# Altium footprint library SOP.PcbLib: 214 footprints (part 5 of 14)
Each footprint in its own frame and in the unit in brackets; x right, y up, seen from the top. Pads: shape width x height; smd on the part's side, far side on the other; paste and mask are expansions set on the pad; w line width, h text height; cw(c..) or ccw(c..) is an arc to the next point about the centre after c.
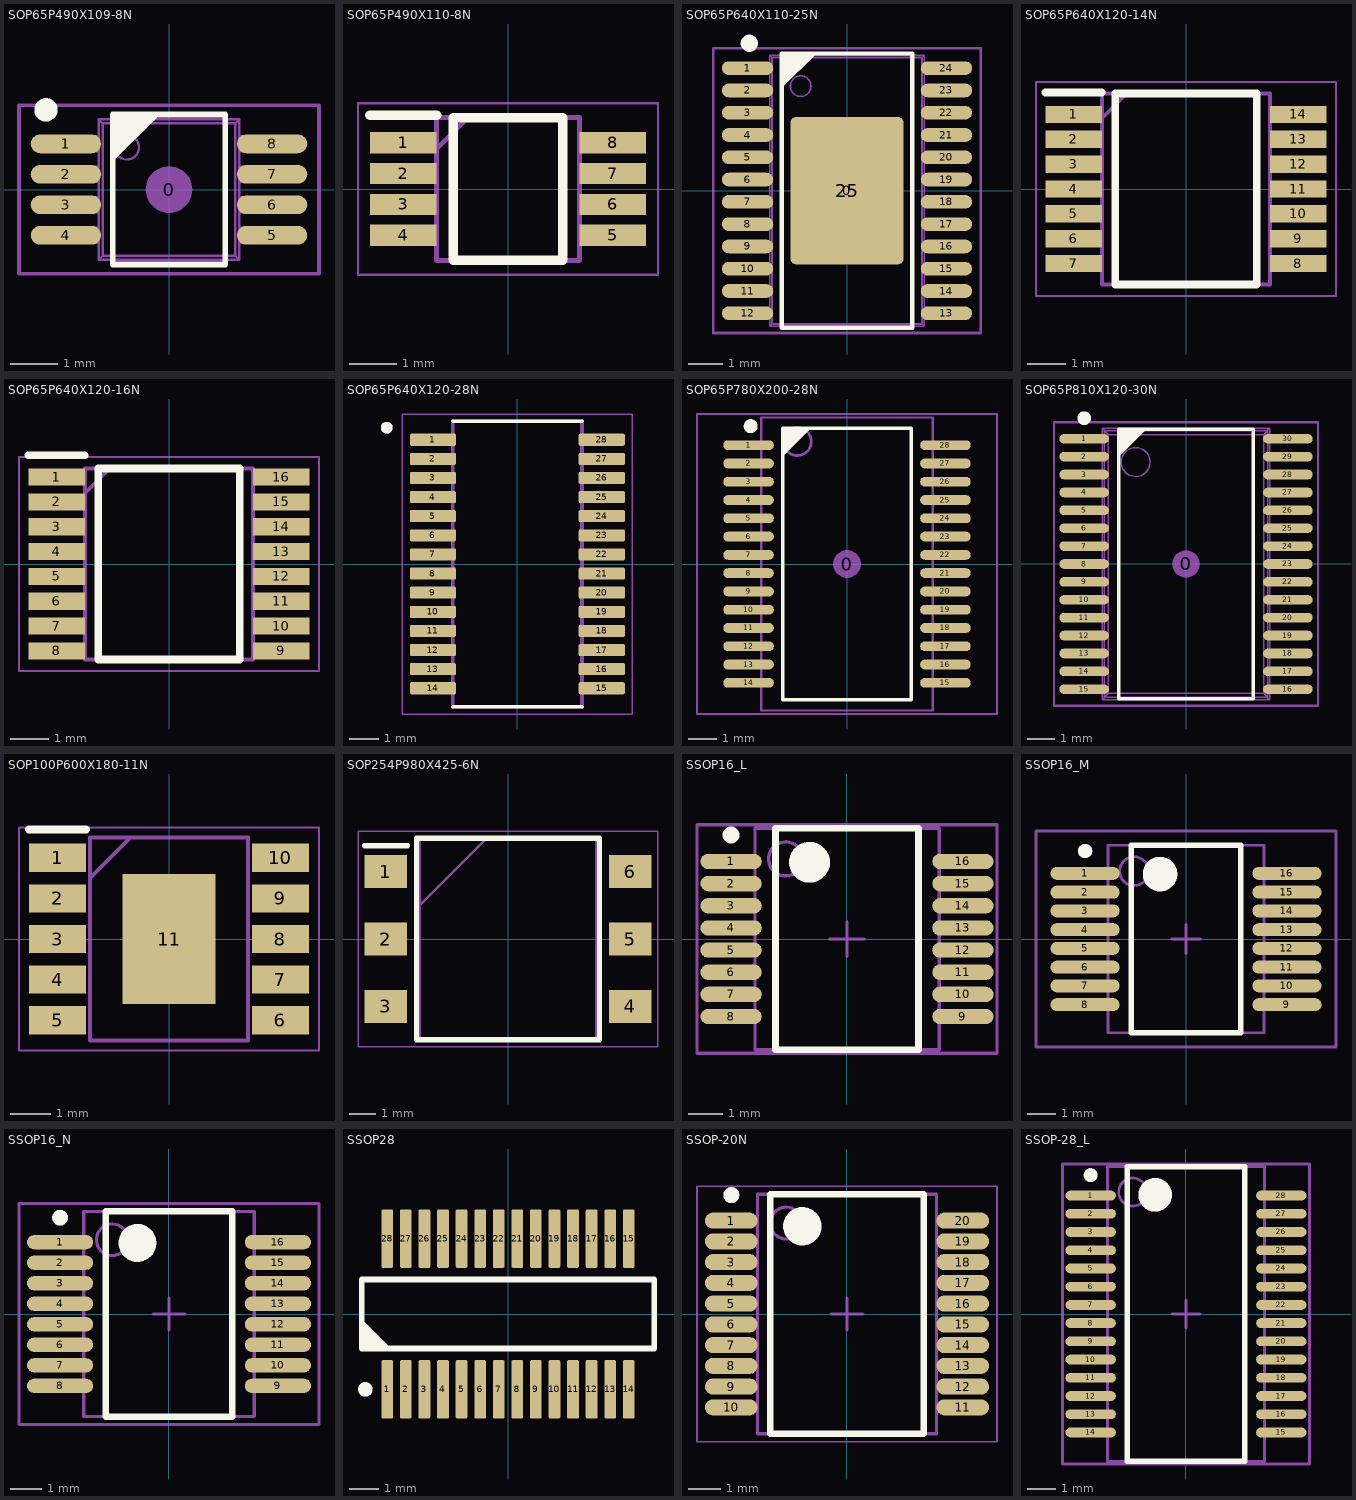
[diagram p4: the footprints below, top view; thin cyan lines are the x and y axes]

## SOP65P490X109-8N [mm] "SOP, 0.65mm pitch, 8 pin, Body 3.0x3.0x1.09mm LWH, IPC Medium Density"
height 1.09
pads (9):
  round 1 on Mech15: 0(0,0)
  oval 1.5x0.4 smd: 1(-2.2,0.975) 2(-2.2,0.325) 3(-2.2,-0.325) 4(-2.2,-0.975) 5(2.2,-0.975) 6(2.2,-0.325) 7(2.2,0.325) 8(2.2,0.975)
Top Overlay:
  circle w0.25: c-2.625,1.7 r0.125
  region: -1.2,1.6 -0.2,1.6 -1.2,0.6
  lines w0.127: -1.2,-1.6 -1.2,1.6 1.2,1.6 1.2,-1.6 -1.2,-1.6
Mechanical 13:
  circle w0.05: c-0.9,0.9 r0.26
  lines w0.05: -2.162,-1.135 -2.162,-0.815 ; -2.162,-0.485 -2.162,-0.165 ; -2.162,0.165 -2.162,0.485 ; -2.162,0.815 -2.162,1.135 ; -2.074,-1.135 -2.074,-0.815 ; -2.074,-0.485 -2.074,-0.165 ; -2.074,0.165 -2.074,0.485 ; -2.074,0.815 -2.074,1.135 ; -2.019,-1.135 -2.019,-0.815 ; -2.019,-0.485 -2.019,-0.165 ; -2.019,0.165 -2.019,0.485 ; -2.019,0.815 -2.019,1.135 ; -1.749,-1.135 -1.749,-0.815 ; -1.749,-0.485 -1.749,-0.165 ; -1.749,0.165 -1.749,0.485 ; -1.749,0.815 -1.749,1.135 ; -1.5,-1.135 -2.45,-1.135 -2.45,-0.815 -1.5,-0.815 ; -1.5,-0.485 -2.45,-0.485 -2.45,-0.165 -1.5,-0.165 ; -1.5,0.165 -2.45,0.165 -2.45,0.485 -1.5,0.485 ; -1.5,0.815 -2.45,0.815 -2.45,1.135 -1.5,1.135 ; 1.5,-1.135 2.45,-1.135 2.45,-0.815 1.5,-0.815 ; 1.5,-0.485 2.45,-0.485 2.45,-0.165 1.5,-0.165 ; 1.5,0.165 2.45,0.165 2.45,0.485 1.5,0.485 ; 1.5,0.815 2.45,0.815 2.45,1.135 1.5,1.135 ; 1.749,-1.135 1.749,-0.815 ; 1.749,-0.485 1.749,-0.165 ; 1.749,0.165 1.749,0.485 ; 1.749,0.815 1.749,1.135 ; 2.019,-1.135 2.019,-0.815 ; 2.019,-0.485 2.019,-0.165 ; 2.019,0.165 2.019,0.485 ; 2.019,0.815 2.019,1.135 ; 2.074,-1.135 2.074,-0.815 ; 2.074,-0.485 2.074,-0.165 ; 2.074,0.165 2.074,0.485 ; 2.074,0.815 2.074,1.135 ; 2.162,-1.135 2.162,-0.815 ; 2.162,-0.485 2.162,-0.165 ; 2.162,0.165 2.162,0.485 ; 2.162,0.815 2.162,1.135 ; -1.5,-1.5 1.5,-1.5 ; -1.5,-1.5 -1.5,1.5 ; -1.5,-1.5 -1.413,-1.413 ; -1.5,1.5 -1.413,1.413 ; -1.5,1.5 1.5,1.5 ; -1.413,-1.413 1.413,-1.413 ; -1.413,-1.413 -1.413,1.413 ; -1.413,1.413 1.413,1.413 ; 1.413,-1.413 1.5,-1.5 ; 1.413,-1.413 1.413,1.413 ; 1.413,1.413 1.5,1.5 ; 1.5,-1.5 1.5,1.5
Mechanical 15:
  lines w0.076: -3.2,-1.8 -3.2,1.8 3.2,1.8 3.2,-1.8 -3.2,-1.8
3D body "MSOP-8.STEP": height 1.1, standoff 0, extent -2.45,-1.5 2.45,1.5

## SOP65P490X110-8N [mm]
pads (8):
  rect 1.4x0.45 smd: 1(-2.2,0.975) 2(-2.2,0.325) 3(-2.2,-0.325) 4(-2.2,-0.975) 5(2.2,-0.975) 6(2.2,-0.325) 7(2.2,0.325) 8(2.2,0.975)
Top Overlay:
  lines w0.2: -2.9,1.55 -1.5,1.55 ; -1.15,-1.5 -1.15,1.5 1.15,1.5 1.15,-1.5 -1.15,-1.5
Mechanical 13:
  lines w0.1: -1.5,0.85 -0.85,1.5 ; -1.5,-1.5 -1.5,1.5 1.5,1.5 1.5,-1.5 -1.5,-1.5
Mechanical 15:
  lines w0.05: -3.15,-1.8 -3.15,1.8 3.15,1.8 3.15,-1.8 -3.15,-1.8
3D body "INA2290A3IDGKT.stp": height 1.1, standoff 0, extent -2.451,-1.499 2.451,1.499

## SOP65P640X110-25N [mm] "TSSOP, 24-Leads, Body 7.9x4.5mm (max), Pitch 0.65mm, IPC Medium Density; JEDEC MO-153"
height 1.1
pads (26):
  round 0.508 on Mech15 mask+0.127: 0(0,0)
  oval 1.5x0.4 smd mask+0.127: 1(-2.9,3.575) 2(-2.9,2.925) 3(-2.9,2.275) 4(-2.9,1.625) 5(-2.9,0.975) 6(-2.9,0.325) 7(-2.9,-0.325) 8(-2.9,-0.975) 9(-2.9,-1.625) 10(-2.9,-2.275) 11(-2.9,-2.925) 12(-2.9,-3.575) 13(2.9,-3.575) 14(2.9,-2.925) 15(2.9,-2.275) 16(2.9,-1.625) 17(2.9,-0.975) 18(2.9,-0.325) 19(2.9,0.325) 20(2.9,0.975) 21(2.9,1.625) 22(2.9,2.275) 23(2.9,2.925) 24(2.9,3.575)
  rrect10% 3.3x4.3 smd paste-0.7: 25(0,0)
Top Overlay:
  circle w0.25: c-2.85,4.3 r0.125
  region: -1.9,4 -0.9,4 -1.9,3
  lines w0.127: -1.9,-4 -1.9,4 1.9,4 1.9,-4 -1.9,-4
Mechanical 13:
  drawing of 181 lines, arcs and shapes, not listed
Mechanical 15:
  lines w0.076: -3.9,-4.15 -3.9,4.15 3.9,4.15 3.9,-4.15 -3.9,-4.15
3D body "SOP65P640X110-24N.STEP": height 1.2, standoff 0, extent -3.25,-3.95 3.25,3.95

## SOP65P640X120-14N [mm]
pads (14):
  rect 1.475x0.45 smd: 1(-2.938,1.95) 2(-2.938,1.3) 3(-2.938,0.65) 4(-2.938,0) 5(-2.938,-0.65) 6(-2.938,-1.3) 7(-2.938,-1.95) 8(2.938,-1.95) 9(2.938,-1.3) 10(2.938,-0.65) 11(2.938,0) 12(2.938,0.65) 13(2.938,1.3) 14(2.938,1.95)
Top Overlay:
  lines w0.2: -3.675,2.525 -2.2,2.525 ; -1.85,-2.5 1.85,-2.5 1.85,2.5 -1.85,2.5 -1.85,-2.5
Mechanical 13:
  lines w0.1: -2.2,1.85 -1.55,2.5 ; -2.2,-2.5 2.2,-2.5 2.2,2.5 -2.2,2.5 -2.2,-2.5
Mechanical 15:
  lines w0.05: -3.925,-2.8 3.925,-2.8 3.925,2.8 -3.925,2.8 -3.925,-2.8
3D body "LSF0204PWR.stp": height 1.13, standoff 0, extent -3.2,-2.5 3.2,2.5

## SOP65P640X120-16N [mm]
pads (16):
  rect 1.475x0.45 smd: 1(-2.938,2.275) 2(-2.938,1.625) 3(-2.938,0.975) 4(-2.938,0.325) 5(-2.938,-0.325) 6(-2.938,-0.975) 7(-2.938,-1.625) 8(-2.938,-2.275) 9(2.938,-2.275) 10(2.938,-1.625) 11(2.938,-0.975) 12(2.938,-0.325) 13(2.938,0.325) 14(2.938,0.975) 15(2.938,1.625) 16(2.938,2.275)
Top Overlay:
  lines w0.2: -3.675,2.85 -2.2,2.85 ; -1.85,-2.5 -1.85,2.5 1.85,2.5 1.85,-2.5 -1.85,-2.5
Mechanical 15:
  lines w0.1: -2.2,1.85 -1.55,2.5 ; -2.2,-2.5 -2.2,2.5 2.2,2.5 2.2,-2.5 -2.2,-2.5
Mechanical 20:
  lines w0.05: -3.925,-2.8 -3.925,2.8 3.925,2.8 3.925,-2.8 -3.925,-2.8
3D body "ADS1220IPWR.stp": height 1.13, standoff 0, extent -3.2,-2.5 3.2,2.5

## SOP65P640X120-28N [mm]
pads (28):
  rrect25% 1.57x0.41 smd: 1(-2.87,4.225) 2(-2.87,3.575) 3(-2.87,2.925) 4(-2.87,2.275) 5(-2.87,1.625) 6(-2.87,0.975) 7(-2.87,0.325) 8(-2.87,-0.325) 9(-2.87,-0.975) 10(-2.87,-1.625) 11(-2.87,-2.275) 12(-2.87,-2.925) 13(-2.87,-3.575) 14(-2.87,-4.225) 15(2.87,-4.225) 16(2.87,-3.575) 17(2.87,-2.925) 18(2.87,-2.275) 19(2.87,-1.625) 20(2.87,-0.975) 21(2.87,-0.325) 22(2.87,0.325) 23(2.87,0.975) 24(2.87,1.625) 25(2.87,2.275) 26(2.87,2.925) 27(2.87,3.575) 28(2.87,4.225)
Top Overlay:
  circle w0.2: c-4.44,4.635 r0.1
  lines w0.127: -2.2,-4.85 2.2,-4.85 ; -2.2,4.85 2.2,4.85
Mechanical 13:
  circle w0.2: c-4.44,4.635 r0.1
  lines w0.127: -2.2,-4.85 -2.2,4.85 2.2,4.85 2.2,-4.85 -2.2,-4.85
Mechanical 15:
  lines w0.05: -3.905,-5.1 -3.905,5.1 3.905,5.1 3.905,-5.1 -3.905,-5.1
3D body "step_temp.STEP": height 1.2, standoff 0, extent -3.2,-4.85 3.2,4.85

## SOP65P780X200-28N [mm] "SOP, 28 Leads, Body 10.2x5.3mm, Pitch 0.65mm, IPC Medium Density"
height 2
pads (29):
  round 1 on Mech15: 0(0,0)
  oval 1.8x0.35 smd: 1(-3.5,4.225) 2(-3.5,3.575) 3(-3.5,2.925) 4(-3.5,2.275) 5(-3.5,1.625) 6(-3.5,0.975) 7(-3.5,0.325) 8(-3.5,-0.325) 9(-3.5,-0.975) 10(-3.5,-1.625) 11(-3.5,-2.275) 12(-3.5,-2.925) 13(-3.5,-3.575) 14(-3.5,-4.225) 15(3.5,-4.225) 16(3.5,-3.575) 17(3.5,-2.925) 18(3.5,-2.275) 19(3.5,-1.625) 20(3.5,-0.975) 21(3.5,-0.325) 22(3.5,0.325) 23(3.5,0.975) 24(3.5,1.625) 25(3.5,2.275) 26(3.5,2.925) 27(3.5,3.575) 28(3.5,4.225)
Top Overlay:
  circle w0.25: c-3.425,4.9 r0.125
  region: -2.286,4.826 -1.286,4.826 -2.286,3.826
  lines w0.127: -2.286,-4.826 2.286,-4.826 2.286,4.826 -2.286,4.826 -2.286,-4.826
Mechanical 13:
  circle w0.1: c-1.77,4.355 r0.5
  lines w0.076: -3.048,-5.207 3.048,-5.207 3.048,5.207 -3.048,5.207 -3.048,-5.207
Mechanical 15:
  lines w0.076: -5.334,-5.334 5.334,-5.334 5.334,5.334 -5.334,5.334 -5.334,-5.334
3D body "SOP65P780X200-28N.stp": height 1.88, standoff 0, extent -3.903,-5.1 3.903,5.1

## SOP65P810X120-30N [mm] "SOP, 30-Leads, Body 9.8x6.2mm (max), Pitch 0.65mm, IPC Medium Density"
height 1.2
pads (31):
  round 1 on Mech15: 0(0,0)
  oval 1.8x0.35 smd mask+0.152: 1(-3.7,4.55) 2(-3.7,3.9) 3(-3.7,3.25) 4(-3.7,2.6) 5(-3.7,1.95) 6(-3.7,1.3) 7(-3.7,0.65) 8(-3.7,0) 9(-3.7,-0.65) 10(-3.7,-1.3) 11(-3.7,-1.95) 12(-3.7,-2.6) 13(-3.7,-3.25) 14(-3.7,-3.9) 15(-3.7,-4.55) 16(3.7,-4.55) 17(3.7,-3.9) 18(3.7,-3.25) 19(3.7,-2.6) 20(3.7,-1.95) 21(3.7,-1.3) 22(3.7,-0.65) 23(3.7,0) 24(3.7,0.65) 25(3.7,1.3) 26(3.7,1.95) 27(3.7,2.6) 28(3.7,3.25) 29(3.7,3.9) 30(3.7,4.55)
Top Overlay:
  circle w0.25: c-3.7,5.3 r0.125
  region: -2.45,4.9 -1.45,4.9 -2.45,3.9
  lines w0.127: -2.45,-4.9 -2.45,4.9 2.45,4.9 2.45,-4.9 -2.45,-4.9
Mechanical 13:
  drawing of 227 lines, arcs and shapes, not listed
Mechanical 15:
  lines w0.076: -4.8,-5.15 -4.8,5.15 4.8,5.15 4.8,-5.15 -4.8,-5.15
3D body "LSSOP-30.STEP": height 1.3, standoff 0, extent -4.05,-4.925 4.05,4.925

## SOP100P600X180-11N [mm]
pads (11):
  rect 1.4x0.7 smd: 1(-2.75,2) 2(-2.75,1) 3(-2.75,0) 4(-2.75,-1) 5(-2.75,-2) 6(2.75,-2) 7(2.75,-1) 8(2.75,0) 9(2.75,1) 10(2.75,2)
  rect 2.3x3.2 smd: 11(0,0)
Top Overlay:
  lines w0.2: -3.45,2.7 -2.05,2.7
Mechanical 13:
  lines w0.1: -1.95,1.5 -0.95,2.5 ; -1.95,-2.5 1.95,-2.5 1.95,2.5 -1.95,2.5 -1.95,-2.5
Mechanical 15:
  lines w0.05: -3.7,-2.75 3.7,-2.75 3.7,2.75 -3.7,2.75 -3.7,-2.75
3D body "CH224K.stp": height 1.8, standoff 0, extent -3,-2.5 3,2.5

## SOP254P980X425-6N [mm]
pads (6):
  rect 1.6x1.25 smd: 1(-4.6,2.54) 2(-4.6,0) 3(-4.6,-2.54) 4(4.6,-2.54) 5(4.6,0) 6(4.6,2.54)
Top Overlay:
  lines w0.2: -5.4,3.515 -3.8,3.515 ; -3.45,-3.8 3.45,-3.8 3.45,3.8 -3.45,3.8 -3.45,-3.8
Mechanical 13:
  lines w0.1: -3.325,1.26 -0.785,3.8 ; -3.325,-3.8 3.325,-3.8 3.325,3.8 -3.325,3.8 -3.325,-3.8
Mechanical 15:
  lines w0.05: -5.65,-4.05 5.65,-4.05 5.65,4.05 -5.65,4.05 -5.65,-4.05
3D body "VO14642AABTR.stp": height 4.33, standoff -0.03, extent -5.15,-4.3 5.15,4.3

## SSOP16_L [mm] "SOP, 16-Leads, Body 6.2x5.3mm, Pitch 0.65mm, IPC High Density"
height 2
pads (16):
  oval 1.8x0.45 smd: 1(-3.4,2.275) 2(-3.4,1.625) 3(-3.4,0.975) 4(-3.4,0.325) 5(-3.4,-0.325) 6(-3.4,-0.975) 7(-3.4,-1.625) 8(-3.4,-2.275) 9(3.4,-2.275) 10(3.4,-1.625) 11(3.4,-0.975) 12(3.4,-0.325) 13(3.4,0.325) 14(3.4,0.975) 15(3.4,1.625) 16(3.4,2.275)
Top Overlay:
  circle w0.25: c-3.4,3.05 r0.125
  circle w0.6: c-1.1,2.25 r0.3
  lines w0.2: -2.1,-3.25 -2.1,3.25 2.1,3.25 2.1,-3.25 -2.1,-3.25
Mechanical 13:
  circle w0.1: c-1.8,2.35 r0.5
  lines w0.1: -2.7,-3.25 -2.7,3.25 2.7,3.25 2.7,-3.25 -2.7,-3.25
Mechanical 15:
  lines w0.1: -0.5,0 0.5,0 ; 0,-0.5 0,0.5 ; -4.4,-3.35 -4.4,3.35 4.4,3.35 4.4,-3.35 -4.4,-3.35
3D body: height 2, standoff 0, extent -2.7,-3.25 2.7,3.25

## SSOP16_M [mm] "SOP, 16-Leads, Body 6.2x5.3mm, Pitch 0.65mm, IPC Low Density"
height 2
pads (16):
  oval 2.4x0.45 smd: 1(-3.5,2.275) 2(-3.5,1.625) 3(-3.5,0.975) 4(-3.5,0.325) 5(-3.5,-0.325) 6(-3.5,-0.975) 7(-3.5,-1.625) 8(-3.5,-2.275) 9(3.5,-2.275) 10(3.5,-1.625) 11(3.5,-0.975) 12(3.5,-0.325) 13(3.5,0.325) 14(3.5,0.975) 15(3.5,1.625) 16(3.5,2.275)
Top Overlay:
  circle w0.6: c-0.9,2.25 r0.3
  circle w0.25: c-3.5,3.05 r0.125
  lines w0.2: -1.9,-3.25 1.9,-3.25 1.9,3.25 -1.9,3.25 -1.9,-3.25
Mechanical 13:
  circle w0.1: c-1.8,2.35 r0.5
  lines w0.1: -2.7,-3.25 2.7,-3.25 2.7,3.25 -2.7,3.25 -2.7,-3.25
Mechanical 15:
  lines w0.1: -0.5,0 0.5,0 ; 0,-0.5 0,0.5 ; -5.2,-3.75 5.2,-3.75 5.2,3.75 -5.2,3.75 -5.2,-3.75
3D body: height 2, standoff 0, extent -2.7,-3.25 2.7,3.25

## SSOP16_N [mm] "SOP, 16-Leads, Body 6.2x5.3mm, Pitch 0.65mm, IPC Medium Density"
height 2
pads (16):
  oval 2.1x0.45 smd: 1(-3.45,2.275) 2(-3.45,1.625) 3(-3.45,0.975) 4(-3.45,0.325) 5(-3.45,-0.325) 6(-3.45,-0.975) 7(-3.45,-1.625) 8(-3.45,-2.275) 9(3.45,-2.275) 10(3.45,-1.625) 11(3.45,-0.975) 12(3.45,-0.325) 13(3.45,0.325) 14(3.45,0.975) 15(3.45,1.625) 16(3.45,2.275)
Top Overlay:
  circle w0.25: c-3.45,3.05 r0.125
  circle w0.6: c-1,2.25 r0.3
  lines w0.2: -2,-3.25 -2,3.25 2,3.25 2,-3.25 -2,-3.25
Mechanical 13:
  circle w0.1: c-1.8,2.35 r0.5
  lines w0.1: -2.7,-3.25 -2.7,3.25 2.7,3.25 2.7,-3.25 -2.7,-3.25
Mechanical 15:
  lines w0.1: -0.5,0 0.5,0 ; 0,-0.5 0,0.5 ; -4.75,-3.5 -4.75,3.5 4.75,3.5 4.75,-3.5 -4.75,-3.5
3D body: height 2, standoff 0, extent -2.7,-3.25 2.7,3.25

## SSOP28 [mm] "SSOP; 28 Leads; Body Width 3.9 mm; Pitch 0.635 mm"
height 1.75
pads (28):
  rrect25% 0.4x2 smd: 1(-4.127,-2.575) 2(-3.492,-2.575) 3(-2.857,-2.575) 4(-2.222,-2.575) 5(-1.587,-2.575) 6(-0.953,-2.575) 7(-0.318,-2.575) 8(0.318,-2.575) 9(0.953,-2.575) 10(1.587,-2.575) 11(2.222,-2.575) 12(2.857,-2.575) 13(3.492,-2.575) 14(4.127,-2.575) 15(4.127,2.575) 16(3.492,2.575) 17(2.857,2.575) 18(2.222,2.575) 19(1.587,2.575) 20(0.953,2.575) 21(0.318,2.575) 22(-0.318,2.575) 23(-0.953,2.575) 24(-1.587,2.575) 25(-2.222,2.575) 26(-2.857,2.575) 27(-3.492,2.575) 28(-4.127,2.575)
Top Overlay:
  circle w0.25: c-4.878,-2.575 r0.125
  region: -5,-1.175 -5,-0.175 -4,-1.175
  lines w0.2: -5,-1.175 5,-1.175 5,1.175 -5,1.175 -5,-1.175

## SSOP-20N [mm] "SOP, 20-Leads, Body 7,20x5,30mm, Pitch 0,65mm, IPC Medium Density"
height 2
pads (20):
  oval 1.65x0.5 smd: 1(-3.625,2.925) 2(-3.625,2.275) 3(-3.625,1.625) 4(-3.625,0.975) 5(-3.625,0.325) 6(-3.625,-0.325) 7(-3.625,-0.975) 8(-3.625,-1.625) 9(-3.625,-2.275) 10(-3.625,-2.925) 11(3.625,-2.925) 12(3.625,-2.275) 13(3.625,-1.625) 14(3.625,-0.975) 15(3.625,-0.325) 16(3.625,0.325) 17(3.625,0.975) 18(3.625,1.625) 19(3.625,2.275) 20(3.625,2.925)
Top Overlay:
  circle w0.6: c-1.4,2.75 r0.3
  circle w0.25: c-3.625,3.725 r0.125
  lines w0.2: -2.4,-3.75 2.4,-3.75 2.4,3.75 -2.4,3.75 -2.4,-3.75
Mechanical 13:
  circle w0.1: c-1.9,2.85 r0.5
  lines w0.1: -2.8,-3.75 2.8,-3.75 2.8,3.75 -2.8,3.75 -2.8,-3.75
Mechanical 15:
  lines w0.05: -4.7,-4 4.7,-4 4.7,4 -4.7,4 -4.7,-4
  lines w0.1: -0.5,0 0.5,0 ; 0,-0.5 0,0.5
3D body "SOP65P780X200-20N.step": height 2, standoff 0, extent -3.9,-3.75 3.9,3.75

## SSOP-28_L [mm] "SOP, 28-Leads, Body 10.2x5.3mm, Pitch 0.65mm, IPC High Density"
height 2
pads (28):
  oval 1.8x0.35 smd: 1(-3.4,4.225) 2(-3.4,3.575) 3(-3.4,2.925) 4(-3.4,2.275) 5(-3.4,1.625) 6(-3.4,0.975) 7(-3.4,0.325) 8(-3.4,-0.325) 9(-3.4,-0.975) 10(-3.4,-1.625) 11(-3.4,-2.275) 12(-3.4,-2.925) 13(-3.4,-3.575) 14(-3.4,-4.225) 15(3.4,-4.225) 16(3.4,-3.575) 17(3.4,-2.925) 18(3.4,-2.275) 19(3.4,-1.625) 20(3.4,-0.975) 21(3.4,-0.325) 22(3.4,0.325) 23(3.4,0.975) 24(3.4,1.625) 25(3.4,2.275) 26(3.4,2.925) 27(3.4,3.575) 28(3.4,4.225)
Top Overlay:
  circle w0.25: c-3.4,4.95 r0.125
  circle w0.6: c-1.1,4.25 r0.3
  lines w0.2: -2.1,-5.25 -2.1,5.25 2.1,5.25 2.1,-5.25 -2.1,-5.25
Mechanical 13:
  circle w0.1: c-1.9,4.35 r0.5
  lines w0.1: -2.8,-5.25 -2.8,5.25 2.8,5.25 2.8,-5.25 -2.8,-5.25
Mechanical 15:
  lines w0.1: -0.5,0 0.5,0 ; 0,-0.5 0,0.5 ; -4.4,-5.35 -4.4,5.35 4.4,5.35 4.4,-5.35 -4.4,-5.35
3D body: height 2, standoff 0.05, extent -2.8,-5.25 2.8,5.25